# Altium integrated library Diodes - TVS.IntLib: 5379 symbols (part 63 of 122)
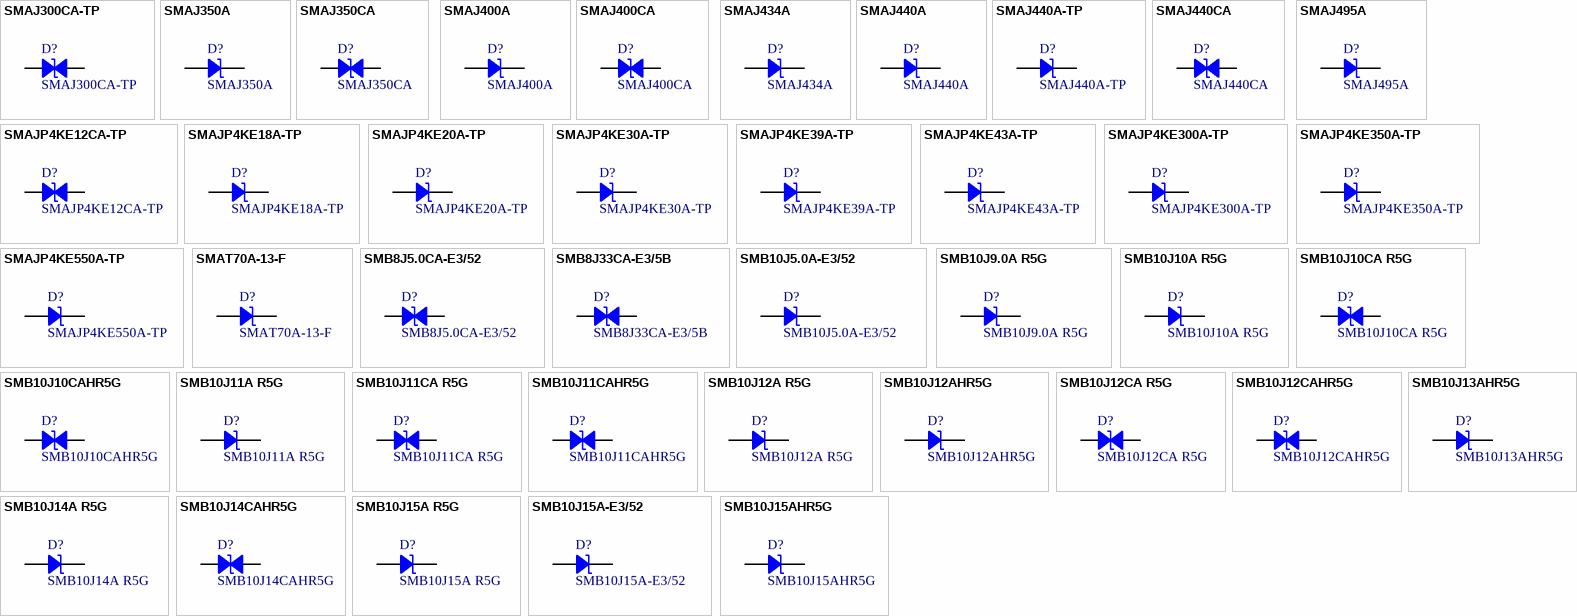
[diagram p196: symbols SMAJ300CA-TP to SMB10J15AHR5G]

## SMB8J5.0CA-E3/52
designator D?
TVS DIODE 5V 9.2V DO214AA; Manufacturer: Vishay Semiconductor Diodes Division; Bidirectional Channels: 1; Current - Peak Pulse (10/1000µs): 87A; Power Line Protection: No; Power - Peak Pulse: 800W; Type: Zener; Voltage - Breakdown (Min): 6.4V; Part Number: SMB8J5.0CA-E3/52; Applications: General Purpose; ComponentLink1Description: Datasheet; ComponentLink1URL: http://www.vishay.com/docs/89424/smb10j40a.pdf; ComponentLink2Description: DigiKey Link; ComponentLink2URL: http://digikey.com/product-detail/en/vishay-semiconductor-diodes-division/SMB8J5.0CA-E3-52/SMB8J5.0CA-E3-52GICT-ND/4754441; LastUpdated: 9/2/2020 1:28:17 AM; Lifecycle Status: Active; Minimum Order: 1; Mounting Type: Surface Mount; Operating Temperature: -55°C ~ 150°C (TJ); Package / Case: DO-214AA, SMB; Packaging: TapeAndReel; PartId: 9097; Part Status: Active; Price: 0.25; Series: TransZorb®; Supplier 1: DigiKey; Supplier Part Number 1: SMB8J5.0CA-E3/52GICT-ND; Supplier Device Package: DO-214AA (SMB); Voltage - Clamping (Max) @ Ipp: 9.2V; Voltage - Reverse Standoff (Typ): 5V
footprint DO214AA SMB
pins: 1, 2

## SMB8J33CA-E3/5B
designator D?
TVS DIODE 33V 53.3V DO214AA; Manufacturer: Vishay Semiconductor Diodes Division; Bidirectional Channels: 1; Current - Peak Pulse (10/1000µs): 15A; Power Line Protection: No; Power - Peak Pulse: 800W; Type: Zener; Voltage - Breakdown (Min): 36.7V; Part Number: SMB8J33CA-E3/5B; Applications: General Purpose; ComponentLink1Description: Datasheet; ComponentLink1URL: http://www.vishay.com/docs/88422/smb10j5.pdf; ComponentLink2Description: DigiKey Link; ComponentLink2URL: http://digikey.com/product-detail/en/vishay-semiconductor-diodes-division/SMB8J33CA-E3-5B/SMB8J33CA-E3-5BGICT-ND/8284128; LastUpdated: 9/2/2020 1:28:18 AM; Lifecycle Status: Active; Minimum Order: 1; Mounting Type: Surface Mount; Operating Temperature: -55°C ~ 150°C (TJ); Package / Case: DO-214AA, SMB; Packaging: TapeAndReel; PartId: 9120; Part Status: Active; Price: 0.19; Series: TransZorb®; Supplier 1: DigiKey; Supplier Part Number 1: SMB8J33CA-E3/5BGICT-ND; Supplier Device Package: DO-214AA (SMB); Voltage - Clamping (Max) @ Ipp: 53.3V; Voltage - Reverse Standoff (Typ): 33V
footprint DO214AA SMB
pins: 1, 2

## SMB10J5.0A-E3/52
designator D?
TVS DIODE 5V 9.2V DO214AA; Manufacturer: Vishay Semiconductor Diodes Division; Current - Peak Pulse (10/1000µs): 108.7A; Power Line Protection: No; Power - Peak Pulse: 1000W (1kW); Type: Zener; Unidirectional Channels: 1; Voltage - Breakdown (Min): 6.4V; Part Number: SMB10J5.0A-E3/52; Applications: General Purpose; ComponentLink1Description: Datasheet; ComponentLink1URL: http://www.vishay.com/docs/88422/smb10j5.pdf; ComponentLink2Description: DigiKey Link; ComponentLink2URL: http://digikey.com/product-detail/en/vishay-semiconductor-diodes-division/SMB10J5.0A-E3-52/SMB10J5.0A-E3-52GICT-ND/3711960; LastUpdated: 9/2/2020 1:19:51 AM; Lifecycle Status: Active; Minimum Order: 1; Mounting Type: Surface Mount; Operating Temperature: -55°C ~ 150°C (TJ); Package / Case: DO-214AA, SMB; Packaging: TapeAndReel; PartId: 11400; Part Status: Active; Price: 0.26; Series: TransZorb®; Supplier 1: DigiKey; Supplier Part Number 1: SMB10J5.0A-E3/52GICT-ND; Supplier Device Package: DO-214AA (SMB); Voltage - Clamping (Max) @ Ipp: 9.2V; Voltage - Reverse Standoff (Typ): 5V
footprint DO214AA SMB
pins: 1, 2

## SMB10J9.0A R5G
designator D?
TVS DIODE 9V 15.4V DO214AA; Manufacturer: Taiwan Semiconductor Corporation; Current - Peak Pulse (10/1000µs): 64.9A; Power Line Protection: No; Power - Peak Pulse: 1000W (1kW); Type: Zener; Unidirectional Channels: 1; Voltage - Breakdown (Min): 10V; Part Number: SMB10J9.0A R5G; Applications: General Purpose; ComponentLink1Description: Datasheet; ComponentLink1URL: https://www.taiwansemi.com/products/datasheet/SMB10J%20SERIES_A1511.pdf; ComponentLink2Description: DigiKey Link; ComponentLink2URL: http://digikey.com/product-detail/en/taiwan-semiconductor-corporation/SMB10J9.0A-R5G/SMB10J9.0AR5GCT-ND/7359048; LastUpdated: 9/2/2020 1:19:45 AM; Lifecycle Status: Active; Minimum Order: 1; Mounting Type: Surface Mount; Operating Temperature: -55°C ~ 175°C (TJ); Package / Case: DO-214AA, SMB; Packaging: TapeAndReel; PartId: 10783; Part Status: Active; Price: 0.24; Series: SMB10J; Supplier 1: DigiKey; Supplier Part Number 1: SMB10J9.0AR5GCT-ND; Supplier Device Package: DO-214AA (SMB); Voltage - Clamping (Max) @ Ipp: 15.4V; Voltage - Reverse Standoff (Typ): 9V
footprint DO214AA SMB
pins: 1, 2

## SMB10J10A R5G
designator D?
TVS DIODE 10V 17V DO214AA; Manufacturer: Taiwan Semiconductor Corporation; Current - Peak Pulse (10/1000µs): 58.8A; Power Line Protection: No; Power - Peak Pulse: 1000W (1kW); Type: Zener; Unidirectional Channels: 1; Voltage - Breakdown (Min): 11.1V; Part Number: SMB10J10A R5G; Applications: General Purpose; ComponentLink1Description: Datasheet; ComponentLink1URL: https://www.taiwansemi.com/products/datasheet/SMB10J%20SERIES_A1511.pdf; ComponentLink2Description: DigiKey Link; ComponentLink2URL: http://digikey.com/product-detail/en/taiwan-semiconductor-corporation/SMB10J10A-R5G/SMB10J10AR5GCT-ND/7358832; LastUpdated: 9/2/2020 1:19:45 AM; Lifecycle Status: Active; Minimum Order: 1; Mounting Type: Surface Mount; Operating Temperature: -55°C ~ 175°C (TJ); Package / Case: DO-214AA, SMB; Packaging: TapeAndReel; PartId: 10781; Part Status: Active; Price: 0.24; Series: SMB10J; Supplier 1: DigiKey; Supplier Part Number 1: SMB10J10AR5GCT-ND; Supplier Device Package: DO-214AA (SMB); Voltage - Clamping (Max) @ Ipp: 17V; Voltage - Reverse Standoff (Typ): 10V
footprint DO214AA SMB
pins: 1, 2

## SMB10J10CA R5G
designator D?
TVS DIODE 10V 17V DO214AA; Manufacturer: Taiwan Semiconductor Corporation; Bidirectional Channels: 1; Current - Peak Pulse (10/1000µs): 58.8A; Power Line Protection: No; Power - Peak Pulse: 1000W (1kW); Type: Zener; Voltage - Breakdown (Min): 11.1V; Part Number: SMB10J10CA R5G; Applications: General Purpose; ComponentLink1Description: Datasheet; ComponentLink1URL: https://www.taiwansemi.com/products/datasheet/SMB10J%20SERIES_A1511.pdf; ComponentLink2Description: DigiKey Link; ComponentLink2URL: http://digikey.com/product-detail/en/taiwan-semiconductor-corporation/SMB10J10CA-R5G/SMB10J10CAR5GCT-ND/7358838; LastUpdated: 9/2/2020 1:28:21 AM; Lifecycle Status: Active; Minimum Order: 1; Mounting Type: Surface Mount; Operating Temperature: -55°C ~ 175°C (TJ); Package / Case: DO-214AA, SMB; Packaging: TapeAndReel; PartId: 9577; Part Status: Active; Price: 0.30; Series: SMB10J; Supplier 1: DigiKey; Supplier Part Number 1: SMB10J10CAR5GCT-ND; Supplier Device Package: DO-214AA (SMB); Voltage - Clamping (Max) @ Ipp: 17V; Voltage - Reverse Standoff (Typ): 10V
footprint DO214AA SMB
pins: 1, 2

## SMB10J10CAHR5G
designator D?
TVS DIODE 10V 17V DO214AA; Manufacturer: Taiwan Semiconductor Corporation; Bidirectional Channels: 1; Current - Peak Pulse (10/1000µs): 58.8A; Power Line Protection: No; Power - Peak Pulse: 1000W (1kW); Type: Zener; Voltage - Breakdown (Min): 11.1V; Part Number: SMB10J10CAHR5G; Applications: Automotive; ComponentLink1Description: Datasheet; ComponentLink1URL: https://www.taiwansemi.com/products/datasheet/SMB10J%20SERIES_A1511.pdf; ComponentLink2Description: DigiKey Link; ComponentLink2URL: http://digikey.com/product-detail/en/taiwan-semiconductor-corporation/SMB10J10CAHR5G/SMB10J10CAHR5GCT-ND/7358841; LastUpdated: 9/2/2020 1:28:21 AM; Lifecycle Status: Active; Minimum Order: 1; Mounting Type: Surface Mount; Operating Temperature: -55°C ~ 175°C (TJ); Package / Case: DO-214AA, SMB; Packaging: TapeAndReel; PartId: 9579; Part Status: Active; Price: 0.30; Series: Automotive, AEC-Q101, SMB10J; Supplier 1: DigiKey; Supplier Part Number 1: SMB10J10CAHR5GCT-ND; Supplier Device Package: DO-214AA (SMB); Voltage - Clamping (Max) @ Ipp: 17V; Voltage - Reverse Standoff (Typ): 10V
footprint DO214AA SMB
pins: 1, 2

## SMB10J11A R5G
designator D?
TVS DIODE 11V 18.2V DO214AA; Manufacturer: Taiwan Semiconductor Corporation; Current - Peak Pulse (10/1000µs): 54.9A; Power Line Protection: No; Power - Peak Pulse: 1000W (1kW); Type: Zener; Unidirectional Channels: 1; Voltage - Breakdown (Min): 12.2V; Part Number: SMB10J11A R5G; Applications: General Purpose; ComponentLink1Description: Datasheet; ComponentLink1URL: https://www.taiwansemi.com/products/datasheet/SMB10J%20SERIES_A1511.pdf; ComponentLink2Description: DigiKey Link; ComponentLink2URL: http://digikey.com/product-detail/en/taiwan-semiconductor-corporation/SMB10J11A-R5G/SMB10J11AR5GCT-ND/7358844; LastUpdated: 9/2/2020 1:19:45 AM; Lifecycle Status: Active; Minimum Order: 1; Mounting Type: Surface Mount; Operating Temperature: -55°C ~ 175°C (TJ); Package / Case: DO-214AA, SMB; Packaging: TapeAndReel; PartId: 10784; Part Status: Active; Price: 0.24; Series: SMB10J; Supplier 1: DigiKey; Supplier Part Number 1: SMB10J11AR5GCT-ND; Supplier Device Package: DO-214AA (SMB); Voltage - Clamping (Max) @ Ipp: 18.2V; Voltage - Reverse Standoff (Typ): 11V
footprint DO214AA SMB
pins: 1, 2

## SMB10J11CA R5G
designator D?
TVS DIODE 11V 18.2V DO214AA; Manufacturer: Taiwan Semiconductor Corporation; Bidirectional Channels: 1; Current - Peak Pulse (10/1000µs): 54.9A; Power Line Protection: No; Power - Peak Pulse: 1000W (1kW); Type: Zener; Voltage - Breakdown (Min): 12.2V; Part Number: SMB10J11CA R5G; Applications: General Purpose; ComponentLink1Description: Datasheet; ComponentLink1URL: https://www.taiwansemi.com/products/datasheet/SMB10J%20SERIES_A1511.pdf; ComponentLink2Description: DigiKey Link; ComponentLink2URL: http://digikey.com/product-detail/en/taiwan-semiconductor-corporation/SMB10J11CA-R5G/SMB10J11CAR5GCT-ND/7358850; LastUpdated: 9/2/2020 1:28:20 AM; Lifecycle Status: Active; Minimum Order: 1; Mounting Type: Surface Mount; Operating Temperature: -55°C ~ 175°C (TJ); Package / Case: DO-214AA, SMB; Packaging: TapeAndReel; PartId: 9456; Part Status: Active; Price: 0.30; Series: SMB10J; Supplier 1: DigiKey; Supplier Part Number 1: SMB10J11CAR5GCT-ND; Supplier Device Package: DO-214AA (SMB); Voltage - Clamping (Max) @ Ipp: 18.2V; Voltage - Reverse Standoff (Typ): 11V
footprint DO214AA SMB
pins: 1, 2

## SMB10J11CAHR5G
designator D?
TVS DIODE 11V 18.2V DO214AA; Manufacturer: Taiwan Semiconductor Corporation; Bidirectional Channels: 1; Current - Peak Pulse (10/1000µs): 54.9A; Power Line Protection: No; Power - Peak Pulse: 1000W (1kW); Type: Zener; Voltage - Breakdown (Min): 12.2V; Part Number: SMB10J11CAHR5G; Applications: Automotive; ComponentLink1Description: Datasheet; ComponentLink1URL: https://www.taiwansemi.com/products/datasheet/SMB10J%20SERIES_A1511.pdf; ComponentLink2Description: DigiKey Link; ComponentLink2URL: http://digikey.com/product-detail/en/taiwan-semiconductor-corporation/SMB10J11CAHR5G/SMB10J11CAHR5GCT-ND/7358853; LastUpdated: 9/2/2020 1:28:21 AM; Lifecycle Status: Active; Minimum Order: 1; Mounting Type: Surface Mount; Operating Temperature: -55°C ~ 175°C (TJ); Package / Case: DO-214AA, SMB; Packaging: TapeAndReel; PartId: 9578; Part Status: Active; Price: 0.30; Series: Automotive, AEC-Q101, SMB10J; Supplier 1: DigiKey; Supplier Part Number 1: SMB10J11CAHR5GCT-ND; Supplier Device Package: DO-214AA (SMB); Voltage - Clamping (Max) @ Ipp: 18.2V; Voltage - Reverse Standoff (Typ): 11V
footprint DO214AA SMB
pins: 1, 2

## SMB10J12A R5G
designator D?
TVS DIODE 12V 19.9V DO214AA; Manufacturer: Taiwan Semiconductor Corporation; Current - Peak Pulse (10/1000µs): 50.3A; Power Line Protection: No; Power - Peak Pulse: 1000W (1kW); Type: Zener; Unidirectional Channels: 1; Voltage - Breakdown (Min): 13.3V; Part Number: SMB10J12A R5G; Applications: General Purpose; ComponentLink1Description: Datasheet; ComponentLink1URL: https://www.taiwansemi.com/products/datasheet/SMB10J%20SERIES_A1511.pdf; ComponentLink2Description: DigiKey Link; ComponentLink2URL: http://digikey.com/product-detail/en/taiwan-semiconductor-corporation/SMB10J12A-R5G/SMB10J12AR5GCT-ND/7358856; LastUpdated: 9/2/2020 1:19:45 AM; Lifecycle Status: Active; Minimum Order: 1; Mounting Type: Surface Mount; Operating Temperature: -55°C ~ 175°C (TJ); Package / Case: DO-214AA, SMB; Packaging: TapeAndReel; PartId: 10772; Part Status: Active; Price: 0.24; Series: SMB10J; Supplier 1: DigiKey; Supplier Part Number 1: SMB10J12AR5GCT-ND; Supplier Device Package: DO-214AA (SMB); Voltage - Clamping (Max) @ Ipp: 19.9V; Voltage - Reverse Standoff (Typ): 12V
footprint DO214AA SMB
pins: 1, 2

## SMB10J12AHR5G
designator D?
TVS DIODE 12V 19.9V DO214AA; Manufacturer: Taiwan Semiconductor Corporation; Current - Peak Pulse (10/1000µs): 50.3A; Power Line Protection: No; Power - Peak Pulse: 1000W (1kW); Type: Zener; Unidirectional Channels: 1; Voltage - Breakdown (Min): 13.3V; Part Number: SMB10J12AHR5G; Applications: Automotive; ComponentLink1Description: Datasheet; ComponentLink1URL: https://www.taiwansemi.com/products/datasheet/SMB10J%20SERIES_A1511.pdf; ComponentLink2Description: DigiKey Link; ComponentLink2URL: http://digikey.com/product-detail/en/taiwan-semiconductor-corporation/SMB10J12AHR5G/SMB10J12AHR5GCT-ND/7358859; LastUpdated: 9/2/2020 1:19:43 AM; Lifecycle Status: Active; Minimum Order: 1; Mounting Type: Surface Mount; Operating Temperature: -55°C ~ 175°C (TJ); Package / Case: DO-214AA, SMB; Packaging: TapeAndReel; PartId: 10535; Part Status: Active; Price: 0.27; Series: Automotive, AEC-Q101, SMB10J; Supplier 1: DigiKey; Supplier Part Number 1: SMB10J12AHR5GCT-ND; Supplier Device Package: DO-214AA (SMB); Voltage - Clamping (Max) @ Ipp: 19.9V; Voltage - Reverse Standoff (Typ): 12V
footprint DO214AA SMB
pins: 1, 2

## SMB10J12CA R5G
designator D?
TVS DIODE 12V 19.9V DO214AA; Manufacturer: Taiwan Semiconductor Corporation; Bidirectional Channels: 1; Current - Peak Pulse (10/1000µs): 50.3A; Power Line Protection: No; Power - Peak Pulse: 1000W (1kW); Type: Zener; Voltage - Breakdown (Min): 13.3V; Part Number: SMB10J12CA R5G; Applications: General Purpose; ComponentLink1Description: Datasheet; ComponentLink1URL: https://www.taiwansemi.com/products/datasheet/SMB10J%20SERIES_A1511.pdf; ComponentLink2Description: DigiKey Link; ComponentLink2URL: http://digikey.com/product-detail/en/taiwan-semiconductor-corporation/SMB10J12CA-R5G/SMB10J12CAR5GCT-ND/7358862; LastUpdated: 9/2/2020 1:28:18 AM; Lifecycle Status: Active; Minimum Order: 1; Mounting Type: Surface Mount; Operating Temperature: -55°C ~ 175°C (TJ); Package / Case: DO-214AA, SMB; Packaging: TapeAndReel; PartId: 9183; Part Status: Active; Price: 0.30; Series: SMB10J; Supplier 1: DigiKey; Supplier Part Number 1: SMB10J12CAR5GCT-ND; Supplier Device Package: DO-214AA (SMB); Voltage - Clamping (Max) @ Ipp: 19.9V; Voltage - Reverse Standoff (Typ): 12V
footprint DO214AA SMB
pins: 1, 2

## SMB10J12CAHR5G
designator D?
TVS DIODE 12V 19.9V DO214AA; Manufacturer: Taiwan Semiconductor Corporation; Bidirectional Channels: 1; Current - Peak Pulse (10/1000µs): 50.3A; Power Line Protection: No; Power - Peak Pulse: 1000W (1kW); Type: Zener; Voltage - Breakdown (Min): 13.3V; Part Number: SMB10J12CAHR5G; Applications: Automotive; ComponentLink1Description: Datasheet; ComponentLink1URL: https://www.taiwansemi.com/products/datasheet/SMB10J%20SERIES_A1511.pdf; ComponentLink2Description: DigiKey Link; ComponentLink2URL: http://digikey.com/product-detail/en/taiwan-semiconductor-corporation/SMB10J12CAHR5G/SMB10J12CAHR5GDKR-ND/7358863; LastUpdated: 9/2/2020 1:28:16 AM; Lifecycle Status: Active; Minimum Order: 1; Mounting Type: Surface Mount; Operating Temperature: -55°C ~ 175°C (TJ); Package / Case: DO-214AA, SMB; Packaging: TapeAndReel; PartId: 8913; Part Status: Active; Price: 0.30; Series: Automotive, AEC-Q101, SMB10J; Supplier 1: DigiKey; Supplier Part Number 1: SMB10J12CAHR5GDKR-ND; Supplier Device Package: DO-214AA (SMB); Voltage - Clamping (Max) @ Ipp: 19.9V; Voltage - Reverse Standoff (Typ): 12V
footprint DO214AA SMB
pins: 1, 2

## SMB10J13AHR5G
designator D?
TVS DIODE 13V 21.5V DO214AA; Manufacturer: Taiwan Semiconductor Corporation; Current - Peak Pulse (10/1000µs): 46.5A; Power Line Protection: No; Power - Peak Pulse: 1000W (1kW); Type: Zener; Unidirectional Channels: 1; Voltage - Breakdown (Min): 14.4V; Part Number: SMB10J13AHR5G; Applications: Automotive; ComponentLink1Description: Datasheet; ComponentLink1URL: https://www.taiwansemi.com/products/datasheet/SMB10J%20SERIES_A1511.pdf; ComponentLink2Description: DigiKey Link; ComponentLink2URL: http://digikey.com/product-detail/en/taiwan-semiconductor-corporation/SMB10J13AHR5G/SMB10J13AHR5GCT-ND/7358871; LastUpdated: 9/2/2020 1:19:46 AM; Lifecycle Status: Active; Minimum Order: 1; Mounting Type: Surface Mount; Operating Temperature: -55°C ~ 175°C (TJ); Package / Case: DO-214AA, SMB; Packaging: TapeAndReel; PartId: 10835; Part Status: Active; Price: 0.27; Series: Automotive, AEC-Q101, SMB10J; Supplier 1: DigiKey; Supplier Part Number 1: SMB10J13AHR5GCT-ND; Supplier Device Package: DO-214AA (SMB); Voltage - Clamping (Max) @ Ipp: 21.5V; Voltage - Reverse Standoff (Typ): 13V
footprint DO214AA SMB
pins: 1, 2

## SMB10J14A R5G
designator D?
TVS DIODE 14V 23.2V DO214AA; Manufacturer: Taiwan Semiconductor Corporation; Current - Peak Pulse (10/1000µs): 43.1A; Power Line Protection: No; Power - Peak Pulse: 1000W (1kW); Type: Zener; Unidirectional Channels: 1; Voltage - Breakdown (Min): 15.6V; Part Number: SMB10J14A R5G; Applications: General Purpose; ComponentLink1Description: Datasheet; ComponentLink1URL: https://www.taiwansemi.com/products/datasheet/SMB10J%20SERIES_A1511.pdf; ComponentLink2Description: DigiKey Link; ComponentLink2URL: http://digikey.com/product-detail/en/taiwan-semiconductor-corporation/SMB10J14A-R5G/SMB10J14AR5GCT-ND/7358880; LastUpdated: 9/2/2020 1:19:45 AM; Lifecycle Status: Active; Minimum Order: 1; Mounting Type: Surface Mount; Operating Temperature: -55°C ~ 175°C (TJ); Package / Case: DO-214AA, SMB; Packaging: TapeAndReel; PartId: 10778; Part Status: Active; Price: 0.24; Series: SMB10J; Supplier 1: DigiKey; Supplier Part Number 1: SMB10J14AR5GCT-ND; Supplier Device Package: DO-214AA (SMB); Voltage - Clamping (Max) @ Ipp: 23.2V; Voltage - Reverse Standoff (Typ): 14V
footprint DO214AA SMB
pins: 1, 2

## SMB10J14CAHR5G
designator D?
TVS DIODE 14V 23.2V DO214AA; Manufacturer: Taiwan Semiconductor Corporation; Bidirectional Channels: 1; Current - Peak Pulse (10/1000µs): 43.1A; Power Line Protection: No; Power - Peak Pulse: 1000W (1kW); Type: Zener; Voltage - Breakdown (Min): 15.6V; Part Number: SMB10J14CAHR5G; Applications: Automotive; ComponentLink1Description: Datasheet; ComponentLink1URL: https://www.taiwansemi.com/products/datasheet/SMB10J%20SERIES_A1511.pdf; ComponentLink2Description: DigiKey Link; ComponentLink2URL: http://digikey.com/product-detail/en/taiwan-semiconductor-corporation/SMB10J14CAHR5G/SMB10J14CAHR5GCT-ND/7358889; LastUpdated: 9/2/2020 1:28:15 AM; Lifecycle Status: Active; Minimum Order: 1; Mounting Type: Surface Mount; Operating Temperature: -55°C ~ 175°C (TJ); Package / Case: DO-214AA, SMB; Packaging: TapeAndReel; PartId: 8826; Part Status: Active; Price: 0.30; Series: Automotive, AEC-Q101, SMB10J; Supplier 1: DigiKey; Supplier Part Number 1: SMB10J14CAHR5GCT-ND; Supplier Device Package: DO-214AA (SMB); Voltage - Clamping (Max) @ Ipp: 23.2V; Voltage - Reverse Standoff (Typ): 14V
footprint DO214AA SMB
pins: 1, 2

## SMB10J15A R5G
designator D?
TVS DIODE 15V 24.4V DO214AA; Manufacturer: Taiwan Semiconductor Corporation; Current - Peak Pulse (10/1000µs): 41A; Power Line Protection: No; Power - Peak Pulse: 1000W (1kW); Type: Zener; Unidirectional Channels: 1; Voltage - Breakdown (Min): 16.7V; Part Number: SMB10J15A R5G; Applications: General Purpose; ComponentLink1Description: Datasheet; ComponentLink1URL: https://www.taiwansemi.com/products/datasheet/SMB10J%20SERIES_A1511.pdf; ComponentLink2Description: DigiKey Link; ComponentLink2URL: http://digikey.com/product-detail/en/taiwan-semiconductor-corporation/SMB10J15A-R5G/SMB10J15AR5GCT-ND/7358892; LastUpdated: 9/2/2020 1:19:45 AM; Lifecycle Status: Active; Minimum Order: 1; Mounting Type: Surface Mount; Operating Temperature: -55°C ~ 175°C (TJ); Package / Case: DO-214AA, SMB; Packaging: TapeAndReel; PartId: 10774; Part Status: Active; Price: 0.24; Series: SMB10J; Supplier 1: DigiKey; Supplier Part Number 1: SMB10J15AR5GCT-ND; Supplier Device Package: DO-214AA (SMB); Voltage - Clamping (Max) @ Ipp: 24.4V; Voltage - Reverse Standoff (Typ): 15V
footprint DO214AA SMB
pins: 1, 2

## SMB10J15A-E3/52
designator D?
TVS DIODE 15V 24.4V DO214AA; Manufacturer: Vishay Semiconductor Diodes Division; Current - Peak Pulse (10/1000µs): 41A; Power Line Protection: No; Power - Peak Pulse: 1000W (1kW); Type: Zener; Unidirectional Channels: 1; Voltage - Breakdown (Min): 16.7V; Part Number: SMB10J15A-E3/52; Applications: General Purpose; ComponentLink1Description: Datasheet; ComponentLink1URL: http://www.vishay.com/docs/88422/smb10j5.pdf; ComponentLink2Description: DigiKey Link; ComponentLink2URL: http://digikey.com/product-detail/en/vishay-semiconductor-diodes-division/SMB10J15A-E3-52/SMB10J15A-E3-52GICT-ND/9601026; LastUpdated: 9/2/2020 1:19:46 AM; Lifecycle Status: Active; Minimum Order: 1; Mounting Type: Surface Mount; Operating Temperature: -55°C ~ 150°C (TJ); Package / Case: DO-214AA, SMB; Packaging: TapeAndReel; PartId: 10819; Part Status: Active; Price: 0.30; Series: TransZorb®; Supplier 1: DigiKey; Supplier Part Number 1: SMB10J15A-E3/52GICT-ND; Supplier Device Package: DO-214AA (SMB); Voltage - Clamping (Max) @ Ipp: 24.4V; Voltage - Reverse Standoff (Typ): 15V
footprint DO214AA SMB
pins: 1, 2

## SMB10J15AHR5G
designator D?
TVS DIODE 15V 24.4V DO214AA; Manufacturer: Taiwan Semiconductor Corporation; Current - Peak Pulse (10/1000µs): 41A; Power Line Protection: No; Power - Peak Pulse: 1000W (1kW); Type: Zener; Unidirectional Channels: 1; Voltage - Breakdown (Min): 16.7V; Part Number: SMB10J15AHR5G; Applications: Automotive; ComponentLink1Description: Datasheet; ComponentLink1URL: https://www.taiwansemi.com/products/datasheet/SMB10J%20SERIES_A1511.pdf; ComponentLink2Description: DigiKey Link; ComponentLink2URL: http://digikey.com/product-detail/en/taiwan-semiconductor-corporation/SMB10J15AHR5G/SMB10J15AHR5GCT-ND/7358895; LastUpdated: 9/2/2020 1:19:45 AM; Lifecycle Status: Active; Minimum Order: 1; Mounting Type: Surface Mount; Operating Temperature: -55°C ~ 175°C (TJ); Package / Case: DO-214AA, SMB; Packaging: TapeAndReel; PartId: 10751; Part Status: Active; Price: 0.27; Series: Automotive, AEC-Q101, SMB10J; Supplier 1: DigiKey; Supplier Part Number 1: SMB10J15AHR5GCT-ND; Supplier Device Package: DO-214AA (SMB); Voltage - Clamping (Max) @ Ipp: 24.4V; Voltage - Reverse Standoff (Typ): 15V
footprint DO214AA SMB
pins: 1, 2

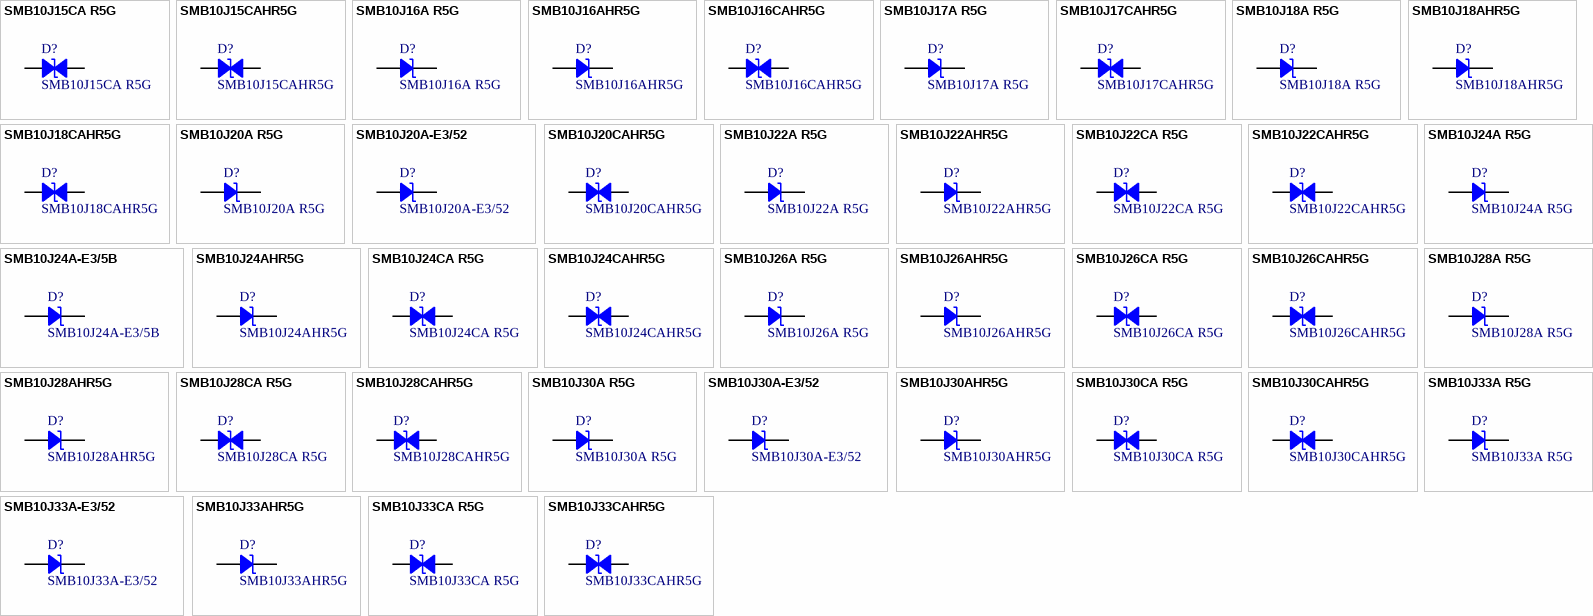
[diagram p69: symbols SMB10J15CA R5G to SMB10J33CAHR5G]

## SMB10J15CA R5G
designator D?
TVS DIODE 15V 24.4V DO214AA; Manufacturer: Taiwan Semiconductor Corporation; Bidirectional Channels: 1; Current - Peak Pulse (10/1000µs): 41A; Power Line Protection: No; Power - Peak Pulse: 1000W (1kW); Type: Zener; Voltage - Breakdown (Min): 16.7V; Part Number: SMB10J15CA R5G; Applications: General Purpose; ComponentLink1Description: Datasheet; ComponentLink1URL: https://www.taiwansemi.com/products/datasheet/SMB10J%20SERIES_A1511.pdf; ComponentLink2Description: DigiKey Link; ComponentLink2URL: http://digikey.com/product-detail/en/taiwan-semiconductor-corporation/SMB10J15CA-R5G/SMB10J15CAR5GCT-ND/7358898; LastUpdated: 9/2/2020 1:28:21 AM; Lifecycle Status: Active; Minimum Order: 1; Mounting Type: Surface Mount; Operating Temperature: -55°C ~ 175°C (TJ); Package / Case: DO-214AA, SMB; Packaging: TapeAndReel; PartId: 9576; Part Status: Active; Price: 0.30; Series: SMB10J; Supplier 1: DigiKey; Supplier Part Number 1: SMB10J15CAR5GCT-ND; Supplier Device Package: DO-214AA (SMB); Voltage - Clamping (Max) @ Ipp: 24.4V; Voltage - Reverse Standoff (Typ): 15V
footprint DO214AA SMB
pins: 1, 2

## SMB10J15CAHR5G
designator D?
TVS DIODE 15V 24.4V DO214AA; Manufacturer: Taiwan Semiconductor Corporation; Bidirectional Channels: 1; Current - Peak Pulse (10/1000µs): 41A; Power Line Protection: No; Power - Peak Pulse: 1000W (1kW); Type: Zener; Voltage - Breakdown (Min): 16.7V; Part Number: SMB10J15CAHR5G; Applications: Automotive; ComponentLink1Description: Datasheet; ComponentLink1URL: https://www.taiwansemi.com/products/datasheet/SMB10J%20SERIES_A1511.pdf; ComponentLink2Description: DigiKey Link; ComponentLink2URL: http://digikey.com/product-detail/en/taiwan-semiconductor-corporation/SMB10J15CAHR5G/SMB10J15CAHR5GCT-ND/7358901; LastUpdated: 9/2/2020 1:28:18 AM; Lifecycle Status: Active; Minimum Order: 1; Mounting Type: Surface Mount; Operating Temperature: -55°C ~ 175°C (TJ); Package / Case: DO-214AA, SMB; Packaging: TapeAndReel; PartId: 9161; Part Status: Active; Price: 0.30; Series: Automotive, AEC-Q101, SMB10J; Supplier 1: DigiKey; Supplier Part Number 1: SMB10J15CAHR5GCT-ND; Supplier Device Package: DO-214AA (SMB); Voltage - Clamping (Max) @ Ipp: 24.4V; Voltage - Reverse Standoff (Typ): 15V
footprint DO214AA SMB
pins: 1, 2

## SMB10J16A R5G
designator D?
TVS DIODE 16V 26V DO214AA; Manufacturer: Taiwan Semiconductor Corporation; Current - Peak Pulse (10/1000µs): 38.5A; Power Line Protection: No; Power - Peak Pulse: 1000W (1kW); Type: Zener; Unidirectional Channels: 1; Voltage - Breakdown (Min): 17.8V; Part Number: SMB10J16A R5G; Applications: General Purpose; ComponentLink1Description: Datasheet; ComponentLink1URL: https://www.taiwansemi.com/products/datasheet/SMB10J%20SERIES_A1511.pdf; ComponentLink2Description: DigiKey Link; ComponentLink2URL: http://digikey.com/product-detail/en/taiwan-semiconductor-corporation/SMB10J16A-R5G/SMB10J16AR5GCT-ND/7358904; LastUpdated: 9/2/2020 1:19:45 AM; Lifecycle Status: Active; Minimum Order: 1; Mounting Type: Surface Mount; Operating Temperature: -55°C ~ 175°C (TJ); Package / Case: DO-214AA, SMB; Packaging: TapeAndReel; PartId: 10775; Part Status: Active; Price: 0.24; Series: SMB10J; Supplier 1: DigiKey; Supplier Part Number 1: SMB10J16AR5GCT-ND; Supplier Device Package: DO-214AA (SMB); Voltage - Clamping (Max) @ Ipp: 26V; Voltage - Reverse Standoff (Typ): 16V
footprint DO214AA SMB
pins: 1, 2

## SMB10J16AHR5G
designator D?
TVS DIODE 16V 26V DO214AA; Manufacturer: Taiwan Semiconductor Corporation; Current - Peak Pulse (10/1000µs): 38.5A; Power Line Protection: No; Power - Peak Pulse: 1000W (1kW); Type: Zener; Unidirectional Channels: 1; Voltage - Breakdown (Min): 17.8V; Part Number: SMB10J16AHR5G; Applications: Automotive; ComponentLink1Description: Datasheet; ComponentLink1URL: https://www.taiwansemi.com/products/datasheet/SMB10J%20SERIES_A1511.pdf; ComponentLink2Description: DigiKey Link; ComponentLink2URL: http://digikey.com/product-detail/en/taiwan-semiconductor-corporation/SMB10J16AHR5G/SMB10J16AHR5GCT-ND/7358907; LastUpdated: 9/2/2020 1:19:50 AM; Lifecycle Status: Active; Minimum Order: 1; Mounting Type: Surface Mount; Operating Temperature: -55°C ~ 175°C (TJ); Package / Case: DO-214AA, SMB; Packaging: TapeAndReel; PartId: 11302; Part Status: Active; Price: 0.27; Series: Automotive, AEC-Q101, SMB10J; Supplier 1: DigiKey; Supplier Part Number 1: SMB10J16AHR5GCT-ND; Supplier Device Package: DO-214AA (SMB); Voltage - Clamping (Max) @ Ipp: 26V; Voltage - Reverse Standoff (Typ): 16V
footprint DO214AA SMB
pins: 1, 2

## SMB10J16CAHR5G
designator D?
TVS DIODE 16V 26V DO214AA; Manufacturer: Taiwan Semiconductor Corporation; Bidirectional Channels: 1; Current - Peak Pulse (10/1000µs): 38.5A; Power Line Protection: No; Power - Peak Pulse: 1000W (1kW); Type: Zener; Voltage - Breakdown (Min): 17.8V; Part Number: SMB10J16CAHR5G; Applications: Automotive; ComponentLink1Description: Datasheet; ComponentLink1URL: https://www.taiwansemi.com/products/datasheet/SMB10J%20SERIES_A1511.pdf; ComponentLink2Description: DigiKey Link; ComponentLink2URL: http://digikey.com/product-detail/en/taiwan-semiconductor-corporation/SMB10J16CAHR5G/SMB10J16CAHR5GCT-ND/7358913; LastUpdated: 9/2/2020 1:28:15 AM; Lifecycle Status: Active; Minimum Order: 1; Mounting Type: Surface Mount; Operating Temperature: -55°C ~ 175°C (TJ); Package / Case: DO-214AA, SMB; Packaging: TapeAndReel; PartId: 8825; Part Status: Active; Price: 0.30; Series: Automotive, AEC-Q101, SMB10J; Supplier 1: DigiKey; Supplier Part Number 1: SMB10J16CAHR5GCT-ND; Supplier Device Package: DO-214AA (SMB); Voltage - Clamping (Max) @ Ipp: 26V; Voltage - Reverse Standoff (Typ): 16V
footprint DO214AA SMB
pins: 1, 2

## SMB10J17A R5G
designator D?
TVS DIODE 17V 27.6V DO214AA; Manufacturer: Taiwan Semiconductor Corporation; Current - Peak Pulse (10/1000µs): 36.2A; Power Line Protection: No; Power - Peak Pulse: 1000W (1kW); Type: Zener; Unidirectional Channels: 1; Voltage - Breakdown (Min): 18.9V; Part Number: SMB10J17A R5G; Applications: General Purpose; ComponentLink1Description: Datasheet; ComponentLink1URL: https://www.taiwansemi.com/products/datasheet/SMB10J%20SERIES_A1511.pdf; ComponentLink2Description: DigiKey Link; ComponentLink2URL: http://digikey.com/product-detail/en/taiwan-semiconductor-corporation/SMB10J17A-R5G/SMB10J17AR5GCT-ND/7358916; LastUpdated: 9/2/2020 1:19:45 AM; Lifecycle Status: Active; Minimum Order: 1; Mounting Type: Surface Mount; Operating Temperature: -55°C ~ 175°C (TJ); Package / Case: DO-214AA, SMB; Packaging: TapeAndReel; PartId: 10780; Part Status: Active; Price: 0.24; Series: SMB10J; Supplier 1: DigiKey; Supplier Part Number 1: SMB10J17AR5GCT-ND; Supplier Device Package: DO-214AA (SMB); Voltage - Clamping (Max) @ Ipp: 27.6V; Voltage - Reverse Standoff (Typ): 17V
footprint DO214AA SMB
pins: 1, 2

## SMB10J17CAHR5G
designator D?
TVS DIODE 17V 27.6V DO214AA; Manufacturer: Taiwan Semiconductor Corporation; Bidirectional Channels: 1; Current - Peak Pulse (10/1000µs): 36.2A; Power Line Protection: No; Power - Peak Pulse: 1000W (1kW); Type: Zener; Voltage - Breakdown (Min): 18.9V; Part Number: SMB10J17CAHR5G; Applications: Automotive; ComponentLink1Description: Datasheet; ComponentLink1URL: https://www.taiwansemi.com/products/datasheet/SMB10J%20SERIES_A1511.pdf; ComponentLink2Description: DigiKey Link; ComponentLink2URL: http://digikey.com/product-detail/en/taiwan-semiconductor-corporation/SMB10J17CAHR5G/SMB10J17CAHR5GCT-ND/7358925; LastUpdated: 9/2/2020 1:28:15 AM; Lifecycle Status: Active; Minimum Order: 1; Mounting Type: Surface Mount; Operating Temperature: -55°C ~ 175°C (TJ); Package / Case: DO-214AA, SMB; Packaging: TapeAndReel; PartId: 8822; Part Status: Active; Price: 0.30; Series: Automotive, AEC-Q101, SMB10J; Supplier 1: DigiKey; Supplier Part Number 1: SMB10J17CAHR5GCT-ND; Supplier Device Package: DO-214AA (SMB); Voltage - Clamping (Max) @ Ipp: 27.6V; Voltage - Reverse Standoff (Typ): 17V
footprint DO214AA SMB
pins: 1, 2

## SMB10J18A R5G
designator D?
TVS DIODE 18V 29.2V DO214AA; Manufacturer: Taiwan Semiconductor Corporation; Current - Peak Pulse (10/1000µs): 34.2A; Power Line Protection: No; Power - Peak Pulse: 1000W (1kW); Type: Zener; Unidirectional Channels: 1; Voltage - Breakdown (Min): 20V; Part Number: SMB10J18A R5G; Applications: General Purpose; ComponentLink1Description: Datasheet; ComponentLink1URL: https://www.taiwansemi.com/products/datasheet/SMB10J%20SERIES_A1511.pdf; ComponentLink2Description: DigiKey Link; ComponentLink2URL: http://digikey.com/product-detail/en/taiwan-semiconductor-corporation/SMB10J18A-R5G/SMB10J18AR5GCT-ND/7358928; LastUpdated: 9/2/2020 1:19:50 AM; Lifecycle Status: Active; Minimum Order: 1; Mounting Type: Surface Mount; Operating Temperature: -55°C ~ 175°C (TJ); Package / Case: DO-214AA, SMB; Packaging: TapeAndReel; PartId: 11305; Part Status: Active; Price: 0.24; Series: SMB10J; Supplier 1: DigiKey; Supplier Part Number 1: SMB10J18AR5GCT-ND; Supplier Device Package: DO-214AA (SMB); Voltage - Clamping (Max) @ Ipp: 29.2V; Voltage - Reverse Standoff (Typ): 18V
footprint DO214AA SMB
pins: 1, 2

## SMB10J18AHR5G
designator D?
TVS DIODE 18V 29.2V DO214AA; Manufacturer: Taiwan Semiconductor Corporation; Current - Peak Pulse (10/1000µs): 34.2A; Power Line Protection: No; Power - Peak Pulse: 1000W (1kW); Type: Zener; Unidirectional Channels: 1; Voltage - Breakdown (Min): 20V; Part Number: SMB10J18AHR5G; Applications: Automotive; ComponentLink1Description: Datasheet; ComponentLink1URL: https://www.taiwansemi.com/products/datasheet/SMB10J%20SERIES_A1511.pdf; ComponentLink2Description: DigiKey Link; ComponentLink2URL: http://digikey.com/product-detail/en/taiwan-semiconductor-corporation/SMB10J18AHR5G/SMB10J18AHR5GCT-ND/7358931; LastUpdated: 9/2/2020 1:19:50 AM; Lifecycle Status: Active; Minimum Order: 1; Mounting Type: Surface Mount; Operating Temperature: -55°C ~ 175°C (TJ); Package / Case: DO-214AA, SMB; Packaging: TapeAndReel; PartId: 11301; Part Status: Active; Price: 0.27; Series: Automotive, AEC-Q101, SMB10J; Supplier 1: DigiKey; Supplier Part Number 1: SMB10J18AHR5GCT-ND; Supplier Device Package: DO-214AA (SMB); Voltage - Clamping (Max) @ Ipp: 29.2V; Voltage - Reverse Standoff (Typ): 18V
footprint DO214AA SMB
pins: 1, 2

## SMB10J18CAHR5G
designator D?
TVS DIODE 18V 29.2V DO214AA; Manufacturer: Taiwan Semiconductor Corporation; Bidirectional Channels: 1; Current - Peak Pulse (10/1000µs): 34.2A; Power Line Protection: No; Power - Peak Pulse: 1000W (1kW); Type: Zener; Voltage - Breakdown (Min): 20V; Part Number: SMB10J18CAHR5G; Applications: Automotive; ComponentLink1Description: Datasheet; ComponentLink1URL: https://www.taiwansemi.com/products/datasheet/SMB10J%20SERIES_A1511.pdf; ComponentLink2Description: DigiKey Link; ComponentLink2URL: http://digikey.com/product-detail/en/taiwan-semiconductor-corporation/SMB10J18CAHR5G/SMB10J18CAHR5GCT-ND/7358937; LastUpdated: 9/2/2020 1:28:18 AM; Lifecycle Status: Active; Minimum Order: 1; Mounting Type: Surface Mount; Operating Temperature: -55°C ~ 175°C (TJ); Package / Case: DO-214AA, SMB; Packaging: TapeAndReel; PartId: 9162; Part Status: Active; Price: 0.30; Series: Automotive, AEC-Q101, SMB10J; Supplier 1: DigiKey; Supplier Part Number 1: SMB10J18CAHR5GCT-ND; Supplier Device Package: DO-214AA (SMB); Voltage - Clamping (Max) @ Ipp: 29.2V; Voltage - Reverse Standoff (Typ): 18V
footprint DO214AA SMB
pins: 1, 2

## SMB10J20A R5G
designator D?
TVS DIODE 20V 32.4V DO214AA; Manufacturer: Taiwan Semiconductor Corporation; Current - Peak Pulse (10/1000µs): 30.9A; Power Line Protection: No; Power - Peak Pulse: 1000W (1kW); Type: Zener; Unidirectional Channels: 1; Voltage - Breakdown (Min): 22.2V; Part Number: SMB10J20A R5G; Applications: General Purpose; ComponentLink1Description: Datasheet; ComponentLink1URL: https://www.taiwansemi.com/products/datasheet/SMB10J%20SERIES_A1511.pdf; ComponentLink2Description: DigiKey Link; ComponentLink2URL: http://digikey.com/product-detail/en/taiwan-semiconductor-corporation/SMB10J20A-R5G/SMB10J20AR5GCT-ND/7358940; LastUpdated: 9/2/2020 1:19:45 AM; Lifecycle Status: Active; Minimum Order: 1; Mounting Type: Surface Mount; Operating Temperature: -55°C ~ 175°C (TJ); Package / Case: DO-214AA, SMB; Packaging: TapeAndReel; PartId: 10773; Part Status: Active; Price: 0.24; Series: SMB10J; Supplier 1: DigiKey; Supplier Part Number 1: SMB10J20AR5GCT-ND; Supplier Device Package: DO-214AA (SMB); Voltage - Clamping (Max) @ Ipp: 32.4V; Voltage - Reverse Standoff (Typ): 20V
footprint DO214AA SMB
pins: 1, 2

## SMB10J20A-E3/52
designator D?
TVS DIODE 20V 32.4V DO214AA; Manufacturer: Vishay Semiconductor Diodes Division; Current - Peak Pulse (10/1000µs): 30.9A; Power Line Protection: No; Power - Peak Pulse: 1000W (1kW); Type: Zener; Unidirectional Channels: 1; Voltage - Breakdown (Min): 22.2V; Part Number: SMB10J20A-E3/52; Applications: General Purpose; ComponentLink1Description: Datasheet; ComponentLink1URL: http://www.vishay.com/docs/88422/smb10j5.pdf; ComponentLink2Description: DigiKey Link; ComponentLink2URL: http://digikey.com/product-detail/en/vishay-semiconductor-diodes-division/SMB10J20A-E3-52/SMB10J20A-E3-52GICT-ND/5639169; LastUpdated: 9/2/2020 1:19:50 AM; Lifecycle Status: Active; Minimum Order: 1; Mounting Type: Surface Mount; Operating Temperature: -55°C ~ 150°C (TJ); Package / Case: DO-214AA, SMB; Packaging: TapeAndReel; PartId: 11294; Part Status: Active; Price: 0.30; Series: TransZorb®; Supplier 1: DigiKey; Supplier Part Number 1: SMB10J20A-E3/52GICT-ND; Supplier Device Package: DO-214AA (SMB); Voltage - Clamping (Max) @ Ipp: 32.4V; Voltage - Reverse Standoff (Typ): 20V
footprint DO214AA SMB
pins: 1, 2

## SMB10J20CAHR5G
designator D?
TVS DIODE 20V 32.4V DO214AA; Manufacturer: Taiwan Semiconductor Corporation; Bidirectional Channels: 1; Current - Peak Pulse (10/1000µs): 30.9A; Power Line Protection: No; Power - Peak Pulse: 1000W (1kW); Type: Zener; Voltage - Breakdown (Min): 22.2V; Part Number: SMB10J20CAHR5G; Applications: Automotive; ComponentLink1Description: Datasheet; ComponentLink1URL: https://www.taiwansemi.com/products/datasheet/SMB10J%20SERIES_A1511.pdf; ComponentLink2Description: DigiKey Link; ComponentLink2URL: http://digikey.com/product-detail/en/taiwan-semiconductor-corporation/SMB10J20CAHR5G/SMB10J20CAHR5GCT-ND/7358949; LastUpdated: 9/2/2020 1:28:18 AM; Lifecycle Status: Active; Minimum Order: 1; Mounting Type: Surface Mount; Operating Temperature: -55°C ~ 175°C (TJ); Package / Case: DO-214AA, SMB; Packaging: TapeAndReel; PartId: 9160; Part Status: Active; Price: 0.30; Series: Automotive, AEC-Q101, SMB10J; Supplier 1: DigiKey; Supplier Part Number 1: SMB10J20CAHR5GCT-ND; Supplier Device Package: DO-214AA (SMB); Voltage - Clamping (Max) @ Ipp: 32.4V; Voltage - Reverse Standoff (Typ): 20V
footprint DO214AA SMB
pins: 1, 2

## SMB10J22A R5G
designator D?
TVS DIODE 22V 35.5V DO214AA; Manufacturer: Taiwan Semiconductor Corporation; Current - Peak Pulse (10/1000µs): 28.2A; Power Line Protection: No; Power - Peak Pulse: 1000W (1kW); Type: Zener; Unidirectional Channels: 1; Voltage - Breakdown (Min): 24.4V; Part Number: SMB10J22A R5G; Applications: General Purpose; ComponentLink1Description: Datasheet; ComponentLink1URL: https://www.taiwansemi.com/products/datasheet/SMB10J%20SERIES_A1511.pdf; ComponentLink2Description: DigiKey Link; ComponentLink2URL: http://digikey.com/product-detail/en/taiwan-semiconductor-corporation/SMB10J22A-R5G/SMB10J22AR5GCT-ND/7358952; LastUpdated: 9/2/2020 1:19:45 AM; Lifecycle Status: Active; Minimum Order: 1; Mounting Type: Surface Mount; Operating Temperature: -55°C ~ 175°C (TJ); Package / Case: DO-214AA, SMB; Packaging: TapeAndReel; PartId: 10785; Part Status: Active; Price: 0.24; Series: SMB10J; Supplier 1: DigiKey; Supplier Part Number 1: SMB10J22AR5GCT-ND; Supplier Device Package: DO-214AA (SMB); Voltage - Clamping (Max) @ Ipp: 35.5V; Voltage - Reverse Standoff (Typ): 22V
footprint DO214AA SMB
pins: 1, 2

## SMB10J22AHR5G
designator D?
TVS DIODE 22V 35.5V DO214AA; Manufacturer: Taiwan Semiconductor Corporation; Current - Peak Pulse (10/1000µs): 28.2A; Power Line Protection: No; Power - Peak Pulse: 1000W (1kW); Type: Zener; Unidirectional Channels: 1; Voltage - Breakdown (Min): 24.4V; Part Number: SMB10J22AHR5G; Applications: Automotive; ComponentLink1Description: Datasheet; ComponentLink1URL: https://www.taiwansemi.com/products/datasheet/SMB10J%20SERIES_A1511.pdf; ComponentLink2Description: DigiKey Link; ComponentLink2URL: http://digikey.com/product-detail/en/taiwan-semiconductor-corporation/SMB10J22AHR5G/SMB10J22AHR5GCT-ND/7358955; LastUpdated: 9/2/2020 1:19:46 AM; Lifecycle Status: Active; Minimum Order: 1; Mounting Type: Surface Mount; Operating Temperature: -55°C ~ 175°C (TJ); Package / Case: DO-214AA, SMB; Packaging: TapeAndReel; PartId: 10836; Part Status: Active; Price: 0.27; Series: Automotive, AEC-Q101, SMB10J; Supplier 1: DigiKey; Supplier Part Number 1: SMB10J22AHR5GCT-ND; Supplier Device Package: DO-214AA (SMB); Voltage - Clamping (Max) @ Ipp: 35.5V; Voltage - Reverse Standoff (Typ): 22V
footprint DO214AA SMB
pins: 1, 2

## SMB10J22CA R5G
designator D?
TVS DIODE 22V 35.5V DO214AA; Manufacturer: Taiwan Semiconductor Corporation; Bidirectional Channels: 1; Current - Peak Pulse (10/1000µs): 28.2A; Power Line Protection: No; Power - Peak Pulse: 1000W (1kW); Type: Zener; Voltage - Breakdown (Min): 24.4V; Part Number: SMB10J22CA R5G; Applications: General Purpose; ComponentLink1Description: Datasheet; ComponentLink1URL: https://www.taiwansemi.com/products/datasheet/SMB10J%20SERIES_A1511.pdf; ComponentLink2Description: DigiKey Link; ComponentLink2URL: http://digikey.com/product-detail/en/taiwan-semiconductor-corporation/SMB10J22CA-R5G/SMB10J22CAR5GCT-ND/7358958; LastUpdated: 9/2/2020 1:28:18 AM; Lifecycle Status: Active; Minimum Order: 1; Mounting Type: Surface Mount; Operating Temperature: -55°C ~ 175°C (TJ); Package / Case: DO-214AA, SMB; Packaging: TapeAndReel; PartId: 9177; Part Status: Active; Price: 0.30; Series: SMB10J; Supplier 1: DigiKey; Supplier Part Number 1: SMB10J22CAR5GCT-ND; Supplier Device Package: DO-214AA (SMB); Voltage - Clamping (Max) @ Ipp: 35.5V; Voltage - Reverse Standoff (Typ): 22V
footprint DO214AA SMB
pins: 1, 2

## SMB10J22CAHR5G
designator D?
TVS DIODE 22V 35.5V DO214AA; Manufacturer: Taiwan Semiconductor Corporation; Bidirectional Channels: 1; Current - Peak Pulse (10/1000µs): 28.2A; Power Line Protection: No; Power - Peak Pulse: 1000W (1kW); Type: Zener; Voltage - Breakdown (Min): 24.4V; Part Number: SMB10J22CAHR5G; Applications: Automotive; ComponentLink1Description: Datasheet; ComponentLink1URL: https://www.taiwansemi.com/products/datasheet/SMB10J%20SERIES_A1511.pdf; ComponentLink2Description: DigiKey Link; ComponentLink2URL: http://digikey.com/product-detail/en/taiwan-semiconductor-corporation/SMB10J22CAHR5G/SMB10J22CAHR5GCT-ND/7358961; LastUpdated: 9/2/2020 1:28:15 AM; Lifecycle Status: Active; Minimum Order: 1; Mounting Type: Surface Mount; Operating Temperature: -55°C ~ 175°C (TJ); Package / Case: DO-214AA, SMB; Packaging: TapeAndReel; PartId: 8823; Part Status: Active; Price: 0.30; Series: Automotive, AEC-Q101, SMB10J; Supplier 1: DigiKey; Supplier Part Number 1: SMB10J22CAHR5GCT-ND; Supplier Device Package: DO-214AA (SMB); Voltage - Clamping (Max) @ Ipp: 35.5V; Voltage - Reverse Standoff (Typ): 22V
footprint DO214AA SMB
pins: 1, 2

## SMB10J24A R5G
designator D?
TVS DIODE 24V 38.9V DO214AA; Manufacturer: Taiwan Semiconductor Corporation; Current - Peak Pulse (10/1000µs): 25.7A; Power Line Protection: No; Power - Peak Pulse: 1000W (1kW); Type: Zener; Unidirectional Channels: 1; Voltage - Breakdown (Min): 26.7V; Part Number: SMB10J24A R5G; Applications: General Purpose; ComponentLink1Description: Datasheet; ComponentLink1URL: https://www.taiwansemi.com/products/datasheet/SMB10J%20SERIES_A1511.pdf; ComponentLink2Description: DigiKey Link; ComponentLink2URL: http://digikey.com/product-detail/en/taiwan-semiconductor-corporation/SMB10J24A-R5G/SMB10J24AR5GCT-ND/7358964; LastUpdated: 9/2/2020 1:19:45 AM; Lifecycle Status: Active; Minimum Order: 1; Mounting Type: Surface Mount; Operating Temperature: -55°C ~ 175°C (TJ); Package / Case: DO-214AA, SMB; Packaging: TapeAndReel; PartId: 10777; Part Status: Active; Price: 0.24; Series: SMB10J; Supplier 1: DigiKey; Supplier Part Number 1: SMB10J24AR5GCT-ND; Supplier Device Package: DO-214AA (SMB); Voltage - Clamping (Max) @ Ipp: 38.9V; Voltage - Reverse Standoff (Typ): 24V
footprint DO214AA SMB
pins: 1, 2

## SMB10J24A-E3/5B
designator D?
TVS DIODE 24V 38.9V DO214AA; Manufacturer: Vishay Semiconductor Diodes Division; Current - Peak Pulse (10/1000µs): 25.7A; Power Line Protection: No; Power - Peak Pulse: 1000W (1kW); Type: Zener; Unidirectional Channels: 1; Voltage - Breakdown (Min): 26.7V; Part Number: SMB10J24A-E3/5B; Applications: General Purpose; ComponentLink1Description: Datasheet; ComponentLink1URL: http://www.vishay.com/docs/88422/smb10j5.pdf; ComponentLink2Description: DigiKey Link; ComponentLink2URL: http://digikey.com/product-detail/en/vishay-semiconductor-diodes-division/SMB10J24A-E3-5B/SMB10J24A-E3-5BGICT-ND/9601027; LastUpdated: 9/2/2020 1:19:43 AM; Lifecycle Status: Active; Minimum Order: 1; Mounting Type: Surface Mount; Operating Temperature: -55°C ~ 150°C (TJ); Package / Case: DO-214AA, SMB; Packaging: TapeAndReel; PartId: 10517; Part Status: Active; Price: 0.23; Series: TransZorb®; Supplier 1: DigiKey; Supplier Part Number 1: SMB10J24A-E3/5BGICT-ND; Supplier Device Package: DO-214AA (SMB); Voltage - Clamping (Max) @ Ipp: 38.9V; Voltage - Reverse Standoff (Typ): 24V
footprint DO214AA SMB
pins: 1, 2

## SMB10J24AHR5G
designator D?
TVS DIODE 24V 38.9V DO214AA; Manufacturer: Taiwan Semiconductor Corporation; Current - Peak Pulse (10/1000µs): 25.7A; Power Line Protection: No; Power - Peak Pulse: 1000W (1kW); Type: Zener; Unidirectional Channels: 1; Voltage - Breakdown (Min): 26.7V; Part Number: SMB10J24AHR5G; Applications: Automotive; ComponentLink1Description: Datasheet; ComponentLink1URL: https://www.taiwansemi.com/products/datasheet/SMB10J%20SERIES_A1511.pdf; ComponentLink2Description: DigiKey Link; ComponentLink2URL: http://digikey.com/product-detail/en/taiwan-semiconductor-corporation/SMB10J24AHR5G/SMB10J24AHR5GCT-ND/7358967; LastUpdated: 9/2/2020 1:19:46 AM; Lifecycle Status: Active; Minimum Order: 1; Mounting Type: Surface Mount; Operating Temperature: -55°C ~ 175°C (TJ); Package / Case: DO-214AA, SMB; Packaging: TapeAndReel; PartId: 10837; Part Status: Active; Price: 0.27; Series: Automotive, AEC-Q101, SMB10J; Supplier 1: DigiKey; Supplier Part Number 1: SMB10J24AHR5GCT-ND; Supplier Device Package: DO-214AA (SMB); Voltage - Clamping (Max) @ Ipp: 38.9V; Voltage - Reverse Standoff (Typ): 24V
footprint DO214AA SMB
pins: 1, 2

## SMB10J24CA R5G
designator D?
TVS DIODE 24V 38.9V DO214AA; Manufacturer: Taiwan Semiconductor Corporation; Bidirectional Channels: 1; Current - Peak Pulse (10/1000µs): 25.7A; Power Line Protection: No; Power - Peak Pulse: 1000W (1kW); Type: Zener; Voltage - Breakdown (Min): 26.7V; Part Number: SMB10J24CA R5G; Applications: General Purpose; ComponentLink1Description: Datasheet; ComponentLink1URL: https://www.taiwansemi.com/products/datasheet/SMB10J%20SERIES_A1511.pdf; ComponentLink2Description: DigiKey Link; ComponentLink2URL: http://digikey.com/product-detail/en/taiwan-semiconductor-corporation/SMB10J24CA-R5G/SMB10J24CAR5GCT-ND/7358970; LastUpdated: 9/2/2020 1:28:18 AM; Lifecycle Status: Active; Minimum Order: 1; Mounting Type: Surface Mount; Operating Temperature: -55°C ~ 175°C (TJ); Package / Case: DO-214AA, SMB; Packaging: TapeAndReel; PartId: 9180; Part Status: Active; Price: 0.30; Series: SMB10J; Supplier 1: DigiKey; Supplier Part Number 1: SMB10J24CAR5GCT-ND; Supplier Device Package: DO-214AA (SMB); Voltage - Clamping (Max) @ Ipp: 38.9V; Voltage - Reverse Standoff (Typ): 24V
footprint DO214AA SMB
pins: 1, 2

## SMB10J24CAHR5G
designator D?
TVS DIODE 24V 38.9V DO214AA; Manufacturer: Taiwan Semiconductor Corporation; Bidirectional Channels: 1; Current - Peak Pulse (10/1000µs): 25.7A; Power Line Protection: No; Power - Peak Pulse: 1000W (1kW); Type: Zener; Voltage - Breakdown (Min): 26.7V; Part Number: SMB10J24CAHR5G; Applications: Automotive; ComponentLink1Description: Datasheet; ComponentLink1URL: https://www.taiwansemi.com/products/datasheet/SMB10J%20SERIES_A1511.pdf; ComponentLink2Description: DigiKey Link; ComponentLink2URL: http://digikey.com/product-detail/en/taiwan-semiconductor-corporation/SMB10J24CAHR5G/SMB10J24CAHR5GCT-ND/7358973; LastUpdated: 9/2/2020 1:28:15 AM; Lifecycle Status: Active; Minimum Order: 1; Mounting Type: Surface Mount; Operating Temperature: -55°C ~ 175°C (TJ); Package / Case: DO-214AA, SMB; Packaging: TapeAndReel; PartId: 8821; Part Status: Active; Price: 0.30; Series: Automotive, AEC-Q101, SMB10J; Supplier 1: DigiKey; Supplier Part Number 1: SMB10J24CAHR5GCT-ND; Supplier Device Package: DO-214AA (SMB); Voltage - Clamping (Max) @ Ipp: 38.9V; Voltage - Reverse Standoff (Typ): 24V
footprint DO214AA SMB
pins: 1, 2

## SMB10J26A R5G
designator D?
TVS DIODE 26V 42.1V DO214AA; Manufacturer: Taiwan Semiconductor Corporation; Current - Peak Pulse (10/1000µs): 23.8A; Power Line Protection: No; Power - Peak Pulse: 1000W (1kW); Type: Zener; Unidirectional Channels: 1; Voltage - Breakdown (Min): 28.9V; Part Number: SMB10J26A R5G; Applications: General Purpose; ComponentLink1Description: Datasheet; ComponentLink1URL: https://www.taiwansemi.com/products/datasheet/SMB10J%20SERIES_A1511.pdf; ComponentLink2Description: DigiKey Link; ComponentLink2URL: http://digikey.com/product-detail/en/taiwan-semiconductor-corporation/SMB10J26A-R5G/SMB10J26AR5GCT-ND/7358976; LastUpdated: 9/2/2020 1:19:45 AM; Lifecycle Status: Active; Minimum Order: 1; Mounting Type: Surface Mount; Operating Temperature: -55°C ~ 175°C (TJ); Package / Case: DO-214AA, SMB; Packaging: TapeAndReel; PartId: 10771; Part Status: Active; Price: 0.24; Series: SMB10J; Supplier 1: DigiKey; Supplier Part Number 1: SMB10J26AR5GCT-ND; Supplier Device Package: DO-214AA (SMB); Voltage - Clamping (Max) @ Ipp: 42.1V; Voltage - Reverse Standoff (Typ): 26V
footprint DO214AA SMB
pins: 1, 2